# EAGLE library part SFH204 (library EW_Diodes)
Quad PHOTO DIODE
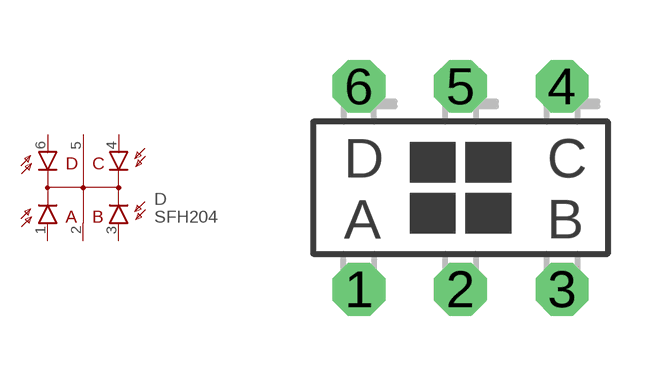
[diagram p6: symbol with the pads of SFH204; footprint SFH204]

Designator prefix D

## SFH204 (OC_FARNELL: unknown; OC_NEWARK: unknown)  [SFH204]
1  1  pas
2  2  pas
3  3  pas
4  4  pas
5  5  pas
6  6  pas

## Footprint SFH204 (pad centres in mm)
Quad PHOTO DIODE
drill 0.813 octagon: 1 -2.54,-2.54; 2 0,-2.54; 3 2.54,-2.54; 4 2.54,2.54; 5 0,2.54; 6 -2.54,2.54